# Altium footprint library 开关按键.PcbLib: 8 footprints
Each footprint in its own frame and in the unit in brackets; x right, y up, seen from the top. Pads: shape width x height; smd on the part's side, far side on the other; paste and mask are expansions set on the pad; w line width, h text height; cw(c..) or ccw(c..) is an arc to the next point about the centre after c.
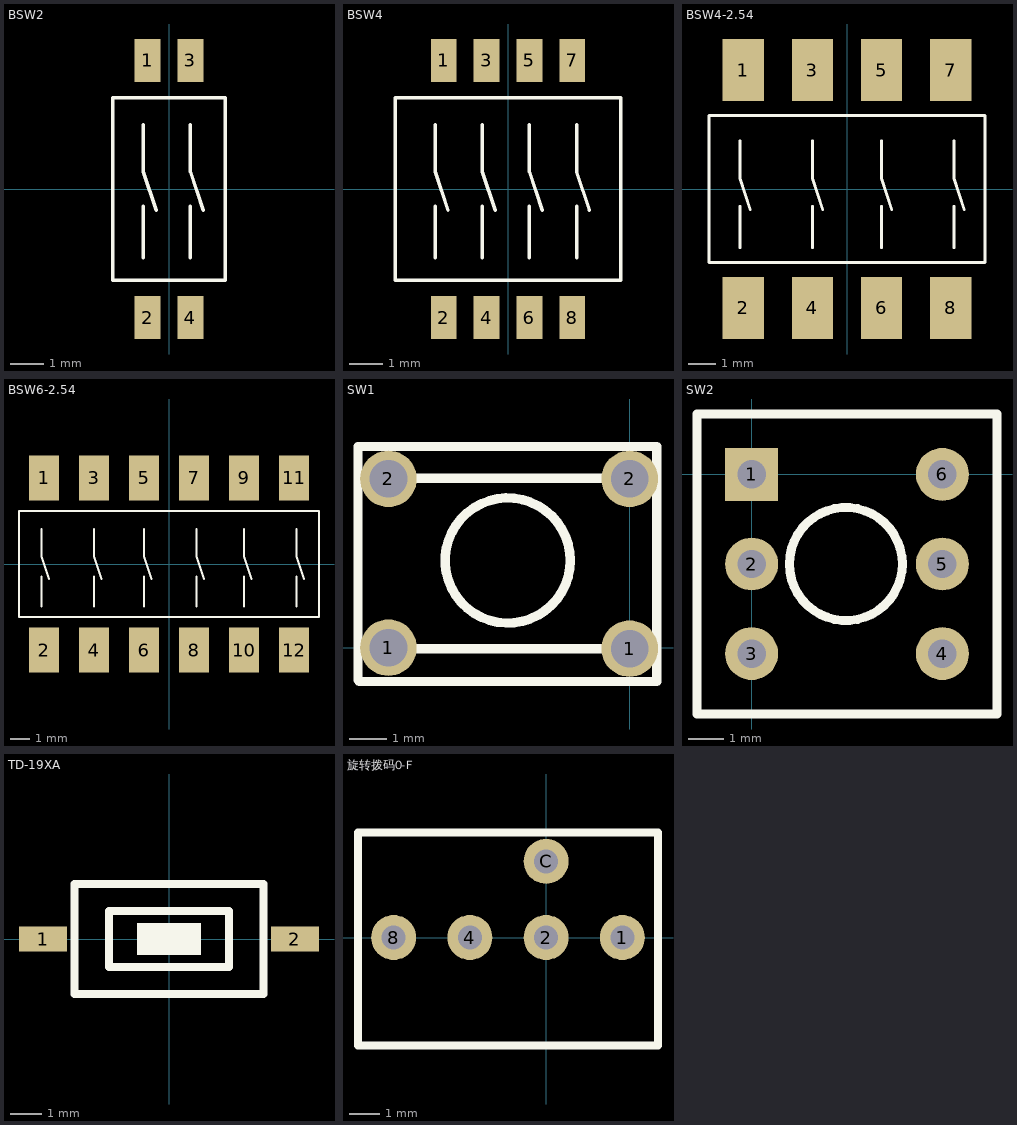
[diagram p0: the footprints below, top view; thin cyan lines are the x and y axes]

## BSW2 [mm]
pads (4):
  rect 0.76x1.27 smd: 1(-0.635,3.81) 2(-0.635,-3.81) 3(0.635,3.81) 4(0.635,-3.81)
Top Overlay:
  lines w0.1: -0.762,-2.032 -0.762,-0.508 ; -0.762,1.905 -0.762,0.508 -0.381,-0.635 ; 0.635,-2.032 0.635,-0.508 ; 0.635,1.905 0.635,0.508 1.016,-0.635 ; -1.67,-2.7 1.67,-2.7 1.67,2.7 -1.67,2.7 -1.67,-2.7

## BSW4 [mm]
pads (8):
  rect 0.76x1.27 smd: 1(-1.905,3.81) 2(-1.905,-3.81) 3(-0.635,3.81) 4(-0.635,-3.81) 5(0.635,3.81) 6(0.635,-3.81) 7(1.905,3.81) 8(1.905,-3.81)
Top Overlay:
  lines w0.1: -2.159,-2.032 -2.159,-0.508 ; -2.159,1.905 -2.159,0.508 -1.778,-0.635 ; -0.762,-2.032 -0.762,-0.508 ; -0.762,1.905 -0.762,0.508 -0.381,-0.635 ; 0.635,-2.032 0.635,-0.508 ; 0.635,1.905 0.635,0.508 1.016,-0.635 ; 2.032,-2.032 2.032,-0.508 ; 2.032,1.905 2.032,0.508 2.413,-0.635 ; -3.34,-2.7 -3.34,2.7 3.34,2.7 3.34,-2.7 -3.34,-2.7

## BSW4-2.54 [mil]
pads (8):
  rect 60x90 smd: 1(-150,172.25) 2(-150,-172.25) 3(-50,172.25) 4(-50,-172.25) 5(50,172.25) 6(50,-172.25) 7(150,172.25) 8(150,-172.25)
Top Overlay:
  lines w3.94: -155,-85 -155,-25 ; -155,70 -155,15 -140,-30 ; -50,-85 -50,-25 ; -50,70 -50,15 -35,-30 ; 50,-85 50,-25 ; 50,70 50,15 65,-30 ; 155,-85 155,-25 ; 155,70 155,15 170,-30 ; -200,-106.3 -200,106.3 200,106.3 200,-106.3 -200,-106.3

## BSW6-2.54 [mil]
pads (12):
  rect 60x90 smd: 1(-250,172.25) 2(-250,-172.25) 3(-150,172.25) 4(-150,-172.25) 5(-50,172.25) 6(-50,-172.25) 7(50,172.25) 8(50,-172.25) 9(150,172.25) 10(150,-172.25) 11(250,172.25) 12(250,-172.25)
Top Overlay:
  lines w3.94: -255,-85 -255,-25 ; -255,70 -255,15 -240,-30 ; -150,-85 -150,-25 ; -150,70 -150,15 -135,-30 ; -50,-85 -50,-25 ; -50,70 -50,15 -35,-30 ; 55,-85 55,-25 ; 55,70 55,15 70,-30 ; 150,-85 150,-25 ; 150,70 150,15 165,-30 ; 255,-85 255,-25 ; 255,70 255,15 270,-30 ; -300,-106.3 -300,106.3 300,106.3 300,-106.3 -300,-106.3

## SW1 [mil]
pads (4):
  round 60 hole 40: 1(-255.91,0) 1(0,-0.98) 2(-255.91,179.13) 2(0,179.13)
Top Overlay:
  circle w10: c-129.37,92.52 r66.38
  lines w10: -288.19,-34.25 -288.19,213.39 ; -287.8,213.39 28.74,213.39 ; -287.09,-35.83 28.66,-35.83 28.66,213.39 ; -263.54,179.92 -3.54,179.92 ; -255,-0.98 0,-0.98

## SW2 [mm]
pads (6):
  rect 1.5x1.5 hole 0.8: 1(0,0)
  round 1.5 hole 0.8: 2(0,-2.54) 3(0,-5.08) 4(5.4,-5.08) 5(5.4,-2.54) 6(5.4,0)
Top Overlay:
  circle w0.254: c2.667,-2.54 r1.6
  lines w0.254: -1.55,-6.79 -1.55,1.71 6.95,1.71 6.95,-6.79 -1.55,-6.79

## TD-19XA [mm] "轻触开关3*6*2.5MM"
pads (2):
  rect 1.524x0.8 smd: 1(-4,0) 2(4,0)
Top Overlay:
  rectangle: -1.016,-0.508 1.016,0.508
  lines w0.254: -3,-1.75 3,-1.75 3,1.75 -3,1.75 -3,-1.75 ; -1.905,-0.889 -1.905,0.889 1.905,0.889 1.905,-0.889 -1.905,-0.889

## 旋转拨码0-F [mm]
pads (5):
  round 1.5 hole 0.8: 1(2.54,0) 2(0,0) 4(-2.54,0) 8(-5.08,0) C(0,2.54)
Top Overlay:
  lines w0.254: -6.27,-3.6 -6.27,3.5 3.73,3.5 3.73,-3.6 -6.27,-3.6